# Altium integrated library Silicon Labs Audio.IntLib: 141 symbols (part 4 of 7)
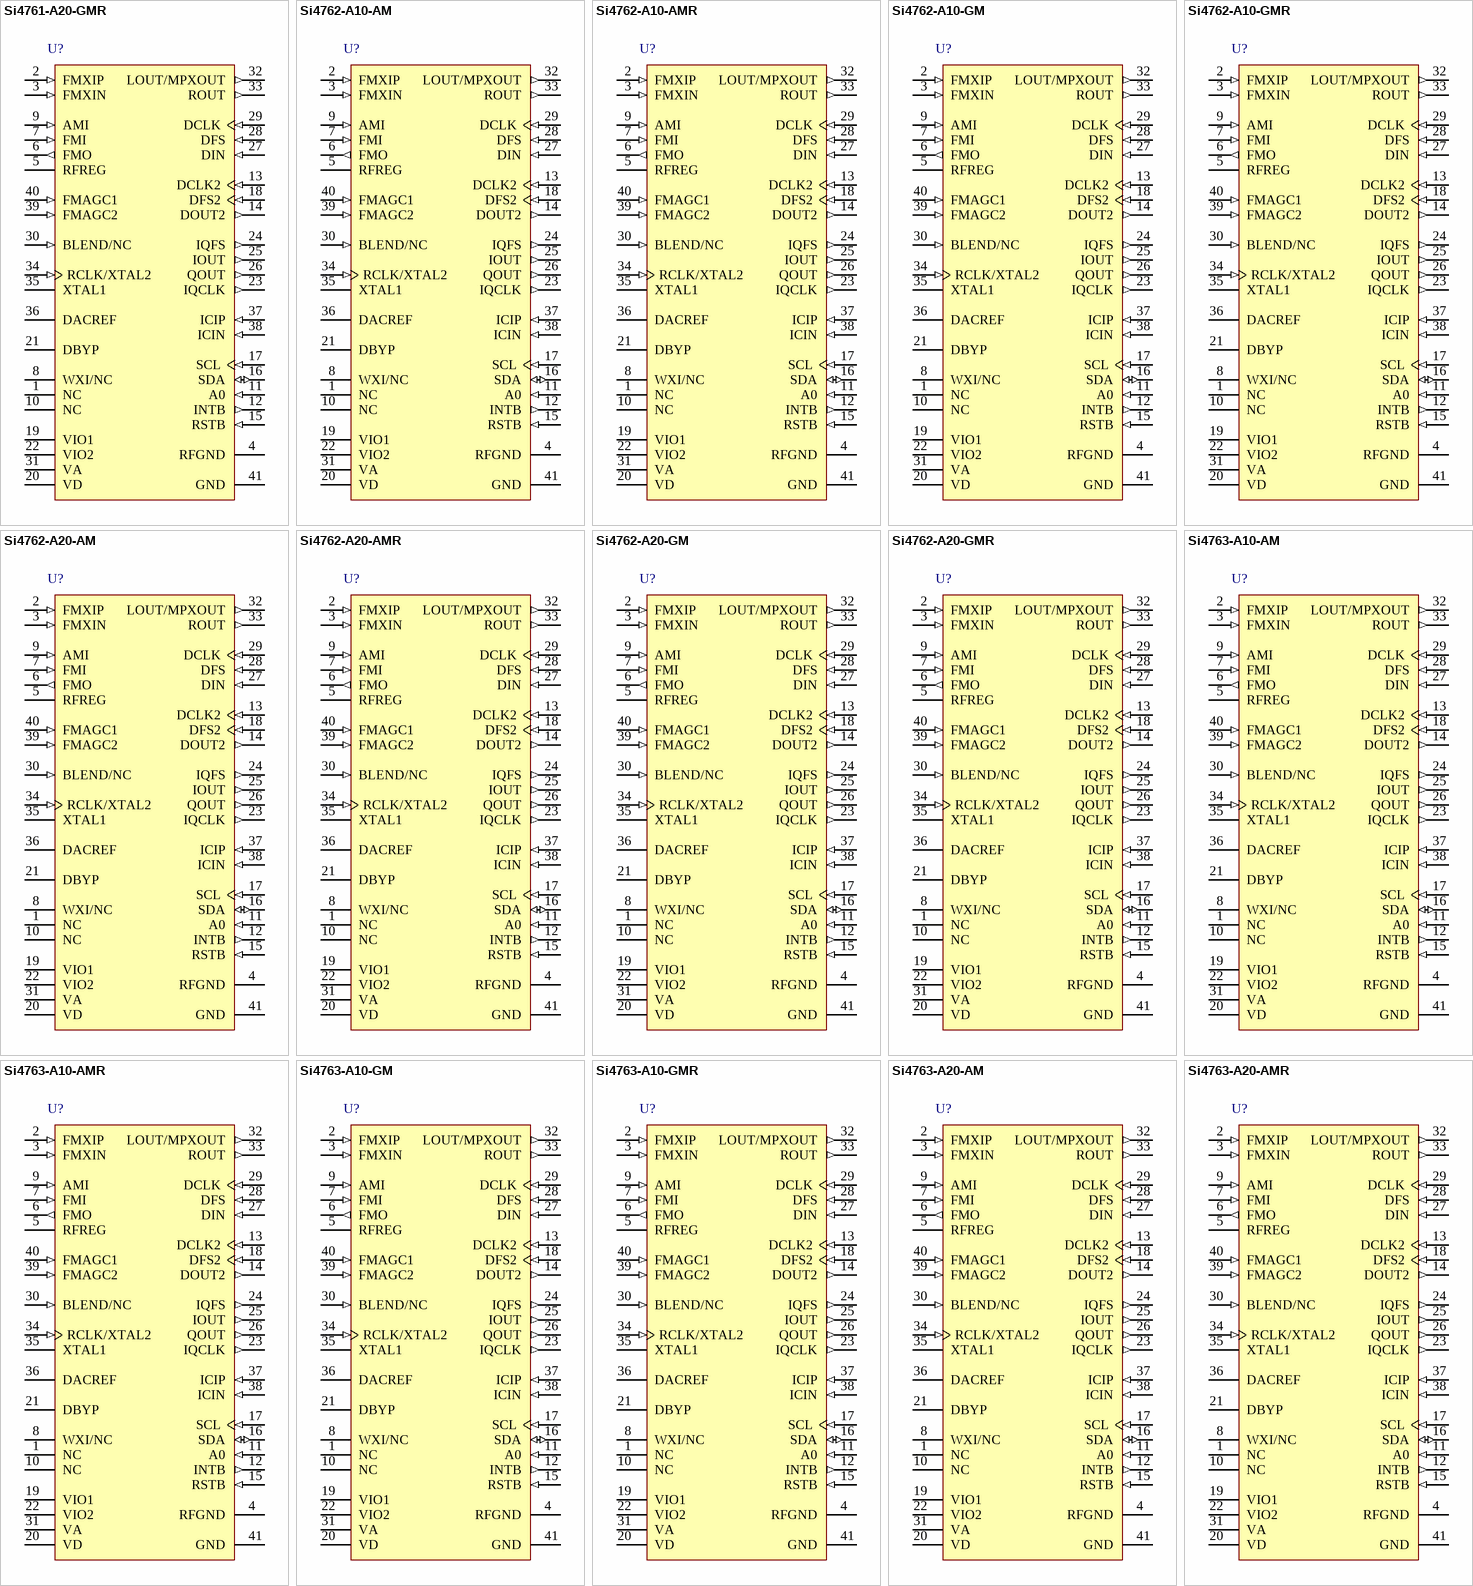
[diagram p10: symbols Si4761-A20-GMR to Si4763-A20-AMR]

## Si4762-A20-GMR
designator U?
High-Performance Automotive AM / FM Radio Receiver and HD Radio Tuner, -40 to 85 degC, 40-pin QFN, Tape and Reel; Manufacturer: Silicon Labs; PartNumber: Si4762-A20-GMR; RDS Support: TRUE; Sub-Family: Automotive Tuners; PackageVersion: Rev. 1.3, 01/2012; PackageReference: QFN-40; PackageDescription: 40-Pin Quad-Flat No-Leads Package, Body 6 x 6 mm, Pitch 0.5 mm; Supplier 1: Digi-Key; Supplier Part Number 1: SI4762-A20-GMR-ND; Packing: Tape and Reel; Mounting Technology: Surface Mount; Code_JEDEC: MO-220; Code_IPC: J-STD-020; ComponentLink1Description: Manufacturer URL; ComponentLink1URL: http://www.silabs.com/; ComponentLink2Description: Datasheet; ComponentLink2URL: http://www.silabs.com/Support Documents/TechnicalDocs/Si476x-short.pdf; ComponentLink3Description: Package Specification; ComponentLink3URL: http://www.silabs.com/Support%20Documents/TechnicalDocs/Si3452.pdf
footprint SLAB-QFN-40-4100x4100TP_A_N (QFN, 40-Leads, Body 6x6mm, Pitch 0.5mm, Thermal Pad 4.1X4.1mm, IPC Medium Density)
footprint SLAB-QFN-40-4100x4100TP_A_L (QFN, 40-Leads, Body 6x6mm, Pitch 0.5mm, Thermal Pad 4.1X4.1mm, IPC High Density)
footprint SLAB-QFN-40-4100x4100TP_A_M (QFN, 40-Leads, Body 6x6mm, Pitch 0.5mm, Thermal Pad 4.1X4.1mm, IPC Low Density)
pins: 1 NC, 2 FMXIP (in), 3 FMXIN (in), 4 RFGND (power), 5 RFREG (power), 6 FMO (out), 7 FMI (in), 8 WXI/NC, 9 AMI (in), 10 NC, 11 A0 (in), 12 INTB (out), 13 DCLK2 (in), 14 DOUT2 (out), 15 RSTB (in), 16 SDA (io), 17 SCL (in), 18 DFS2 (in), 19 VIO1 (power), 20 VD (power), 21 DBYP, 22 VIO2 (power), 23 IQCLK (out), 24 IQFS (out), 25 IOUT (out), 26 QOUT (out), 27 DIN (in), 28 DFS (in), 29 DCLK (in), 30 BLEND/NC (in), 31 VA (power), 32 LOUT/MPXOUT (out), 33 ROUT (out), 34 RCLK/XTAL2 (in), 35 XTAL1, 36 DACREF, 37 ICIP (in), 38 ICIN (in), 39 FMAGC2 (in), 40 FMAGC1 (in), 41 GND (power)

## Si4763-A10-AM
designator U?
High-Performance Automotive AM / FM Radio Receiver and HD Radio Tuner, -40 to 85 degC, 40-pin QFN, Tray; Manufacturer: Silicon Labs; PartNumber: Si4763-A10-AM; RDS Support: TRUE; Sub-Family: Automotive Tuners; PackageVersion: Rev. 1.3, 01/2012; PackageReference: QFN-40; PackageDescription: 40-Pin Quad-Flat No-Leads Package, Body 6 x 6 mm, Pitch 0.5 mm; Supplier 1: Digi-Key; Supplier Part Number 1: SI4763-A10-AM-ND; Supplier 2: Mouser; Supplier Part Number 2: N/A; Packing: Tray; Mounting Technology: Surface Mount; Code_JEDEC: MO-220; Code_IPC: J-STD-020; ComponentLink1Description: Manufacturer URL; ComponentLink1URL: http://www.silabs.com/; ComponentLink2Description: Datasheet; ComponentLink2URL: http://www.silabs.com/Support Documents/TechnicalDocs/Si476x-short.pdf; ComponentLink3Description: Package Specification; ComponentLink3URL: http://www.silabs.com/Support%20Documents/TechnicalDocs/Si3452.pdf
footprint SLAB-QFN-40-4100x4100TP_A_N (QFN, 40-Leads, Body 6x6mm, Pitch 0.5mm, Thermal Pad 4.1X4.1mm, IPC Medium Density)
footprint SLAB-QFN-40-4100x4100TP_A_L (QFN, 40-Leads, Body 6x6mm, Pitch 0.5mm, Thermal Pad 4.1X4.1mm, IPC High Density)
footprint SLAB-QFN-40-4100x4100TP_A_M (QFN, 40-Leads, Body 6x6mm, Pitch 0.5mm, Thermal Pad 4.1X4.1mm, IPC Low Density)
pins: 1 NC, 2 FMXIP (in), 3 FMXIN (in), 4 RFGND (power), 5 RFREG (power), 6 FMO (out), 7 FMI (in), 8 WXI/NC, 9 AMI (in), 10 NC, 11 A0 (in), 12 INTB (out), 13 DCLK2 (in), 14 DOUT2 (out), 15 RSTB (in), 16 SDA (io), 17 SCL (in), 18 DFS2 (in), 19 VIO1 (power), 20 VD (power), 21 DBYP, 22 VIO2 (power), 23 IQCLK (out), 24 IQFS (out), 25 IOUT (out), 26 QOUT (out), 27 DIN (in), 28 DFS (in), 29 DCLK (in), 30 BLEND/NC (in), 31 VA (power), 32 LOUT/MPXOUT (out), 33 ROUT (out), 34 RCLK/XTAL2 (in), 35 XTAL1, 36 DACREF, 37 ICIP (in), 38 ICIN (in), 39 FMAGC2 (in), 40 FMAGC1 (in), 41 GND (power)

## Si4763-A10-AMR
designator U?
High-Performance Automotive AM / FM Radio Receiver and HD Radio Tuner, -40 to 85 degC, 40-pin QFN, Tape and Reel; Manufacturer: Silicon Labs; PartNumber: Si4763-A10-AMR; RDS Support: TRUE; Sub-Family: Automotive Tuners; PackageVersion: Rev. 1.3, 01/2012; PackageReference: QFN-40; PackageDescription: 40-Pin Quad-Flat No-Leads Package, Body 6 x 6 mm, Pitch 0.5 mm; Supplier 1: Digi-Key; Supplier Part Number 1: SI4763-A10-AMR-ND; Supplier 2: Mouser; Supplier Part Number 2: N/A; Packing: Tape and Reel; Mounting Technology: Surface Mount; Code_JEDEC: MO-220; Code_IPC: J-STD-020; ComponentLink1Description: Manufacturer URL; ComponentLink1URL: http://www.silabs.com/; ComponentLink2Description: Datasheet; ComponentLink2URL: http://www.silabs.com/Support Documents/TechnicalDocs/Si476x-short.pdf; ComponentLink3Description: Package Specification; ComponentLink3URL: http://www.silabs.com/Support%20Documents/TechnicalDocs/Si3452.pdf
footprint SLAB-QFN-40-4100x4100TP_A_N (QFN, 40-Leads, Body 6x6mm, Pitch 0.5mm, Thermal Pad 4.1X4.1mm, IPC Medium Density)
footprint SLAB-QFN-40-4100x4100TP_A_L (QFN, 40-Leads, Body 6x6mm, Pitch 0.5mm, Thermal Pad 4.1X4.1mm, IPC High Density)
footprint SLAB-QFN-40-4100x4100TP_A_M (QFN, 40-Leads, Body 6x6mm, Pitch 0.5mm, Thermal Pad 4.1X4.1mm, IPC Low Density)
pins: 1 NC, 2 FMXIP (in), 3 FMXIN (in), 4 RFGND (power), 5 RFREG (power), 6 FMO (out), 7 FMI (in), 8 WXI/NC, 9 AMI (in), 10 NC, 11 A0 (in), 12 INTB (out), 13 DCLK2 (in), 14 DOUT2 (out), 15 RSTB (in), 16 SDA (io), 17 SCL (in), 18 DFS2 (in), 19 VIO1 (power), 20 VD (power), 21 DBYP, 22 VIO2 (power), 23 IQCLK (out), 24 IQFS (out), 25 IOUT (out), 26 QOUT (out), 27 DIN (in), 28 DFS (in), 29 DCLK (in), 30 BLEND/NC (in), 31 VA (power), 32 LOUT/MPXOUT (out), 33 ROUT (out), 34 RCLK/XTAL2 (in), 35 XTAL1, 36 DACREF, 37 ICIP (in), 38 ICIN (in), 39 FMAGC2 (in), 40 FMAGC1 (in), 41 GND (power)

## Si4763-A10-GM
designator U?
High-Performance Automotive AM / FM Radio Receiver and HD Radio Tuner, -40 to 85 degC, 40-pin QFN, Tray; Manufacturer: Silicon Labs; PartNumber: Si4763-A10-GM; RDS Support: TRUE; Sub-Family: Automotive Tuners; PackageVersion: Rev. 1.3, 01/2012; PackageReference: QFN-40; PackageDescription: 40-Pin Quad-Flat No-Leads Package, Body 6 x 6 mm, Pitch 0.5 mm; Supplier 1: Digi-Key; Supplier Part Number 1: SI4763-A10-GM-ND; Supplier 2: Mouser; Supplier Part Number 2: N/A; Packing: Tray; Mounting Technology: Surface Mount; Code_JEDEC: MO-220; Code_IPC: J-STD-020; ComponentLink1Description: Manufacturer URL; ComponentLink1URL: http://www.silabs.com/; ComponentLink2Description: Datasheet; ComponentLink2URL: http://www.silabs.com/Support Documents/TechnicalDocs/Si476x-short.pdf; ComponentLink3Description: Package Specification; ComponentLink3URL: http://www.silabs.com/Support%20Documents/TechnicalDocs/Si3452.pdf
footprint SLAB-QFN-40-4100x4100TP_A_N (QFN, 40-Leads, Body 6x6mm, Pitch 0.5mm, Thermal Pad 4.1X4.1mm, IPC Medium Density)
footprint SLAB-QFN-40-4100x4100TP_A_L (QFN, 40-Leads, Body 6x6mm, Pitch 0.5mm, Thermal Pad 4.1X4.1mm, IPC High Density)
footprint SLAB-QFN-40-4100x4100TP_A_M (QFN, 40-Leads, Body 6x6mm, Pitch 0.5mm, Thermal Pad 4.1X4.1mm, IPC Low Density)
pins: 1 NC, 2 FMXIP (in), 3 FMXIN (in), 4 RFGND (power), 5 RFREG (power), 6 FMO (out), 7 FMI (in), 8 WXI/NC, 9 AMI (in), 10 NC, 11 A0 (in), 12 INTB (out), 13 DCLK2 (in), 14 DOUT2 (out), 15 RSTB (in), 16 SDA (io), 17 SCL (in), 18 DFS2 (in), 19 VIO1 (power), 20 VD (power), 21 DBYP, 22 VIO2 (power), 23 IQCLK (out), 24 IQFS (out), 25 IOUT (out), 26 QOUT (out), 27 DIN (in), 28 DFS (in), 29 DCLK (in), 30 BLEND/NC (in), 31 VA (power), 32 LOUT/MPXOUT (out), 33 ROUT (out), 34 RCLK/XTAL2 (in), 35 XTAL1, 36 DACREF, 37 ICIP (in), 38 ICIN (in), 39 FMAGC2 (in), 40 FMAGC1 (in), 41 GND (power)

## Si4763-A10-GMR
designator U?
High-Performance Automotive AM / FM Radio Receiver and HD Radio Tuner, -40 to 85 degC, 40-pin QFN, Tape and Reel; Manufacturer: Silicon Labs; PartNumber: Si4763-A10-GMR; RDS Support: TRUE; Sub-Family: Automotive Tuners; PackageVersion: Rev. 1.3, 01/2012; PackageReference: QFN-40; PackageDescription: 40-Pin Quad-Flat No-Leads Package, Body 6 x 6 mm, Pitch 0.5 mm; Supplier 1: Digi-Key; Supplier Part Number 1: SI4763-A10-GMR-ND; Supplier 2: Mouser; Supplier Part Number 2: N/A; Packing: Tape and Reel; Mounting Technology: Surface Mount; Code_JEDEC: MO-220; Code_IPC: J-STD-020; ComponentLink1Description: Manufacturer URL; ComponentLink1URL: http://www.silabs.com/; ComponentLink2Description: Datasheet; ComponentLink2URL: http://www.silabs.com/Support Documents/TechnicalDocs/Si476x-short.pdf; ComponentLink3Description: Package Specification; ComponentLink3URL: http://www.silabs.com/Support%20Documents/TechnicalDocs/Si3452.pdf
footprint SLAB-QFN-40-4100x4100TP_A_N (QFN, 40-Leads, Body 6x6mm, Pitch 0.5mm, Thermal Pad 4.1X4.1mm, IPC Medium Density)
footprint SLAB-QFN-40-4100x4100TP_A_L (QFN, 40-Leads, Body 6x6mm, Pitch 0.5mm, Thermal Pad 4.1X4.1mm, IPC High Density)
footprint SLAB-QFN-40-4100x4100TP_A_M (QFN, 40-Leads, Body 6x6mm, Pitch 0.5mm, Thermal Pad 4.1X4.1mm, IPC Low Density)
pins: 1 NC, 2 FMXIP (in), 3 FMXIN (in), 4 RFGND (power), 5 RFREG (power), 6 FMO (out), 7 FMI (in), 8 WXI/NC, 9 AMI (in), 10 NC, 11 A0 (in), 12 INTB (out), 13 DCLK2 (in), 14 DOUT2 (out), 15 RSTB (in), 16 SDA (io), 17 SCL (in), 18 DFS2 (in), 19 VIO1 (power), 20 VD (power), 21 DBYP, 22 VIO2 (power), 23 IQCLK (out), 24 IQFS (out), 25 IOUT (out), 26 QOUT (out), 27 DIN (in), 28 DFS (in), 29 DCLK (in), 30 BLEND/NC (in), 31 VA (power), 32 LOUT/MPXOUT (out), 33 ROUT (out), 34 RCLK/XTAL2 (in), 35 XTAL1, 36 DACREF, 37 ICIP (in), 38 ICIN (in), 39 FMAGC2 (in), 40 FMAGC1 (in), 41 GND (power)

## Si4763-A20-AM
designator U?
High-Performance Automotive AM / FM Radio Receiver and HD Radio Tuner, -40 to 85 degC, 40-pin QFN, Tray; Manufacturer: Silicon Labs; PartNumber: Si4763-A20-AM; RDS Support: TRUE; Sub-Family: Automotive Tuners; PackageVersion: Rev. 1.3, 01/2012; PackageReference: QFN-40; PackageDescription: 40-Pin Quad-Flat No-Leads Package, Body 6 x 6 mm, Pitch 0.5 mm; Supplier 1: Digi-Key; Supplier Part Number 1: SI4763-A20-AM-ND; Supplier 2: Mouser; Supplier Part Number 2: N/A; Packing: Tray; Mounting Technology: Surface Mount; Code_JEDEC: MO-220; Code_IPC: J-STD-020; ComponentLink1Description: Manufacturer URL; ComponentLink1URL: http://www.silabs.com/; ComponentLink2Description: Datasheet; ComponentLink2URL: http://www.silabs.com/Support Documents/TechnicalDocs/Si476x-short.pdf; ComponentLink3Description: Package Specification; ComponentLink3URL: http://www.silabs.com/Support%20Documents/TechnicalDocs/Si3452.pdf
footprint SLAB-QFN-40-4100x4100TP_A_N (QFN, 40-Leads, Body 6x6mm, Pitch 0.5mm, Thermal Pad 4.1X4.1mm, IPC Medium Density)
footprint SLAB-QFN-40-4100x4100TP_A_L (QFN, 40-Leads, Body 6x6mm, Pitch 0.5mm, Thermal Pad 4.1X4.1mm, IPC High Density)
footprint SLAB-QFN-40-4100x4100TP_A_M (QFN, 40-Leads, Body 6x6mm, Pitch 0.5mm, Thermal Pad 4.1X4.1mm, IPC Low Density)
pins: 1 NC, 2 FMXIP (in), 3 FMXIN (in), 4 RFGND (power), 5 RFREG (power), 6 FMO (out), 7 FMI (in), 8 WXI/NC, 9 AMI (in), 10 NC, 11 A0 (in), 12 INTB (out), 13 DCLK2 (in), 14 DOUT2 (out), 15 RSTB (in), 16 SDA (io), 17 SCL (in), 18 DFS2 (in), 19 VIO1 (power), 20 VD (power), 21 DBYP, 22 VIO2 (power), 23 IQCLK (out), 24 IQFS (out), 25 IOUT (out), 26 QOUT (out), 27 DIN (in), 28 DFS (in), 29 DCLK (in), 30 BLEND/NC (in), 31 VA (power), 32 LOUT/MPXOUT (out), 33 ROUT (out), 34 RCLK/XTAL2 (in), 35 XTAL1, 36 DACREF, 37 ICIP (in), 38 ICIN (in), 39 FMAGC2 (in), 40 FMAGC1 (in), 41 GND (power)

## Si4763-A20-AMR
designator U?
High-Performance Automotive AM / FM Radio Receiver and HD Radio Tuner, -40 to 85 degC, 40-pin QFN, Tape and Reel; Manufacturer: Silicon Labs; PartNumber: Si4763-A20-AMR; RDS Support: TRUE; Sub-Family: Automotive Tuners; PackageVersion: Rev. 1.3, 01/2012; PackageReference: QFN-40; PackageDescription: 40-Pin Quad-Flat No-Leads Package, Body 6 x 6 mm, Pitch 0.5 mm; Supplier 1: Digi-Key; Supplier Part Number 1: SI4763-A20-AMR-ND; Packing: Tape and Reel; Mounting Technology: Surface Mount; Code_JEDEC: MO-220; Code_IPC: J-STD-020; ComponentLink1Description: Manufacturer URL; ComponentLink1URL: http://www.silabs.com/; ComponentLink2Description: Datasheet; ComponentLink2URL: http://www.silabs.com/Support Documents/TechnicalDocs/Si476x-short.pdf; ComponentLink3Description: Package Specification; ComponentLink3URL: http://www.silabs.com/Support%20Documents/TechnicalDocs/Si3452.pdf
footprint SLAB-QFN-40-4100x4100TP_A_N (QFN, 40-Leads, Body 6x6mm, Pitch 0.5mm, Thermal Pad 4.1X4.1mm, IPC Medium Density)
footprint SLAB-QFN-40-4100x4100TP_A_L (QFN, 40-Leads, Body 6x6mm, Pitch 0.5mm, Thermal Pad 4.1X4.1mm, IPC High Density)
footprint SLAB-QFN-40-4100x4100TP_A_M (QFN, 40-Leads, Body 6x6mm, Pitch 0.5mm, Thermal Pad 4.1X4.1mm, IPC Low Density)
pins: 1 NC, 2 FMXIP (in), 3 FMXIN (in), 4 RFGND (power), 5 RFREG (power), 6 FMO (out), 7 FMI (in), 8 WXI/NC, 9 AMI (in), 10 NC, 11 A0 (in), 12 INTB (out), 13 DCLK2 (in), 14 DOUT2 (out), 15 RSTB (in), 16 SDA (io), 17 SCL (in), 18 DFS2 (in), 19 VIO1 (power), 20 VD (power), 21 DBYP, 22 VIO2 (power), 23 IQCLK (out), 24 IQFS (out), 25 IOUT (out), 26 QOUT (out), 27 DIN (in), 28 DFS (in), 29 DCLK (in), 30 BLEND/NC (in), 31 VA (power), 32 LOUT/MPXOUT (out), 33 ROUT (out), 34 RCLK/XTAL2 (in), 35 XTAL1, 36 DACREF, 37 ICIP (in), 38 ICIN (in), 39 FMAGC2 (in), 40 FMAGC1 (in), 41 GND (power)

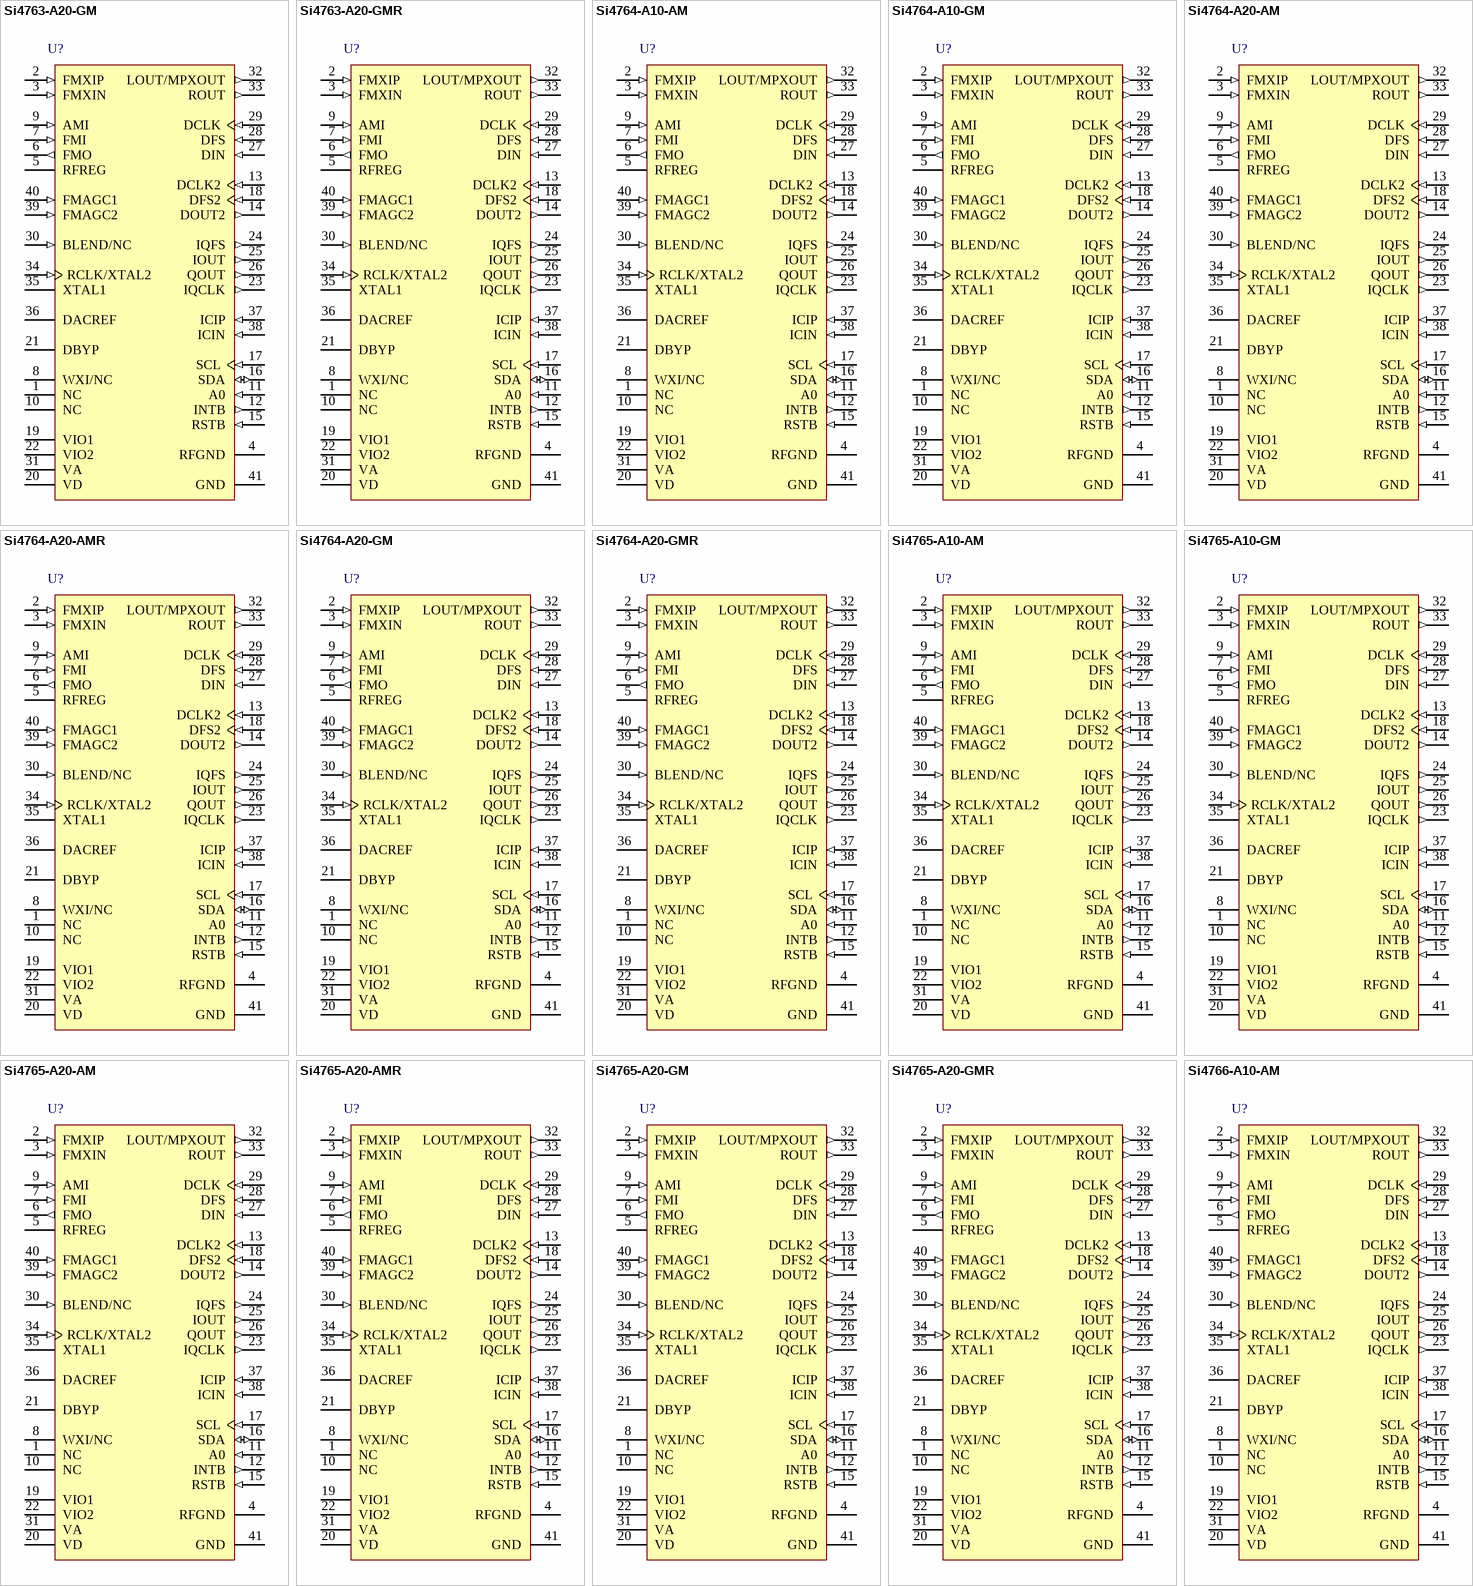
[diagram p4: symbols Si4763-A20-GM to Si4766-A10-AM]

## Si4763-A20-GM
designator U?
High-Performance Automotive AM / FM Radio Receiver and HD Radio Tuner, -40 to 85 degC, 40-pin QFN, Tray; Manufacturer: Silicon Labs; PartNumber: Si4763-A20-GM; RDS Support: TRUE; Sub-Family: Automotive Tuners; PackageVersion: Rev. 1.3, 01/2012; PackageReference: QFN-40; PackageDescription: 40-Pin Quad-Flat No-Leads Package, Body 6 x 6 mm, Pitch 0.5 mm; Supplier 1: Digi-Key; Supplier Part Number 1: SI4763-A20-GM-ND; Supplier 2: Mouser; Supplier Part Number 2: N/A; Packing: Tray; Mounting Technology: Surface Mount; Code_JEDEC: MO-220; Code_IPC: J-STD-020; ComponentLink1Description: Manufacturer URL; ComponentLink1URL: http://www.silabs.com/; ComponentLink2Description: Datasheet; ComponentLink2URL: http://www.silabs.com/Support Documents/TechnicalDocs/Si476x-short.pdf; ComponentLink3Description: Package Specification; ComponentLink3URL: http://www.silabs.com/Support%20Documents/TechnicalDocs/Si3452.pdf
footprint SLAB-QFN-40-4100x4100TP_A_N (QFN, 40-Leads, Body 6x6mm, Pitch 0.5mm, Thermal Pad 4.1X4.1mm, IPC Medium Density)
footprint SLAB-QFN-40-4100x4100TP_A_L (QFN, 40-Leads, Body 6x6mm, Pitch 0.5mm, Thermal Pad 4.1X4.1mm, IPC High Density)
footprint SLAB-QFN-40-4100x4100TP_A_M (QFN, 40-Leads, Body 6x6mm, Pitch 0.5mm, Thermal Pad 4.1X4.1mm, IPC Low Density)
pins: 1 NC, 2 FMXIP (in), 3 FMXIN (in), 4 RFGND (power), 5 RFREG (power), 6 FMO (out), 7 FMI (in), 8 WXI/NC, 9 AMI (in), 10 NC, 11 A0 (in), 12 INTB (out), 13 DCLK2 (in), 14 DOUT2 (out), 15 RSTB (in), 16 SDA (io), 17 SCL (in), 18 DFS2 (in), 19 VIO1 (power), 20 VD (power), 21 DBYP, 22 VIO2 (power), 23 IQCLK (out), 24 IQFS (out), 25 IOUT (out), 26 QOUT (out), 27 DIN (in), 28 DFS (in), 29 DCLK (in), 30 BLEND/NC (in), 31 VA (power), 32 LOUT/MPXOUT (out), 33 ROUT (out), 34 RCLK/XTAL2 (in), 35 XTAL1, 36 DACREF, 37 ICIP (in), 38 ICIN (in), 39 FMAGC2 (in), 40 FMAGC1 (in), 41 GND (power)

## Si4763-A20-GMR
designator U?
High-Performance Automotive AM / FM Radio Receiver and HD Radio Tuner, -40 to 85 degC, 40-pin QFN, Tape and Reel; Manufacturer: Silicon Labs; PartNumber: Si4763-A20-GMR; RDS Support: TRUE; Sub-Family: Automotive Tuners; PackageVersion: Rev. 1.3, 01/2012; PackageReference: QFN-40; PackageDescription: 40-Pin Quad-Flat No-Leads Package, Body 6 x 6 mm, Pitch 0.5 mm; Supplier 1: Digi-Key; Supplier Part Number 1: SI4763-A20-GMR-ND; Packing: Tape and Reel; Mounting Technology: Surface Mount; Code_JEDEC: MO-220; Code_IPC: J-STD-020; ComponentLink1Description: Manufacturer URL; ComponentLink1URL: http://www.silabs.com/; ComponentLink2Description: Datasheet; ComponentLink2URL: http://www.silabs.com/Support Documents/TechnicalDocs/Si476x-short.pdf; ComponentLink3Description: Package Specification; ComponentLink3URL: http://www.silabs.com/Support%20Documents/TechnicalDocs/Si3452.pdf
footprint SLAB-QFN-40-4100x4100TP_A_N (QFN, 40-Leads, Body 6x6mm, Pitch 0.5mm, Thermal Pad 4.1X4.1mm, IPC Medium Density)
footprint SLAB-QFN-40-4100x4100TP_A_L (QFN, 40-Leads, Body 6x6mm, Pitch 0.5mm, Thermal Pad 4.1X4.1mm, IPC High Density)
footprint SLAB-QFN-40-4100x4100TP_A_M (QFN, 40-Leads, Body 6x6mm, Pitch 0.5mm, Thermal Pad 4.1X4.1mm, IPC Low Density)
pins: 1 NC, 2 FMXIP (in), 3 FMXIN (in), 4 RFGND (power), 5 RFREG (power), 6 FMO (out), 7 FMI (in), 8 WXI/NC, 9 AMI (in), 10 NC, 11 A0 (in), 12 INTB (out), 13 DCLK2 (in), 14 DOUT2 (out), 15 RSTB (in), 16 SDA (io), 17 SCL (in), 18 DFS2 (in), 19 VIO1 (power), 20 VD (power), 21 DBYP, 22 VIO2 (power), 23 IQCLK (out), 24 IQFS (out), 25 IOUT (out), 26 QOUT (out), 27 DIN (in), 28 DFS (in), 29 DCLK (in), 30 BLEND/NC (in), 31 VA (power), 32 LOUT/MPXOUT (out), 33 ROUT (out), 34 RCLK/XTAL2 (in), 35 XTAL1, 36 DACREF, 37 ICIP (in), 38 ICIN (in), 39 FMAGC2 (in), 40 FMAGC1 (in), 41 GND (power)

## Si4764-A10-AM
designator U?
High-Performance Automotive AM / FM Radio Receiver and HD Radio Tuner, -40 to 85 degC, 40-pin QFN, Tray; Manufacturer: Silicon Labs; PartNumber: Si4764-A10-AM; RDS Support: TRUE; Sub-Family: Automotive Tuners; PackageVersion: Rev. 1.3, 01/2012; PackageReference: QFN-40; PackageDescription: 40-Pin Quad-Flat No-Leads Package, Body 6 x 6 mm, Pitch 0.5 mm; Supplier 1: Digi-Key; Supplier Part Number 1: SI4764-A10-AM-ND; Supplier 2: Mouser; Supplier Part Number 2: N/A; Packing: Tray; Mounting Technology: Surface Mount; Code_JEDEC: MO-220; Code_IPC: J-STD-020; ComponentLink1Description: Manufacturer URL; ComponentLink1URL: http://www.silabs.com/; ComponentLink2Description: Datasheet; ComponentLink2URL: http://www.silabs.com/Support Documents/TechnicalDocs/Si476x-short.pdf; ComponentLink3Description: Package Specification; ComponentLink3URL: http://www.silabs.com/Support%20Documents/TechnicalDocs/Si3452.pdf
footprint SLAB-QFN-40-4100x4100TP_A_N (QFN, 40-Leads, Body 6x6mm, Pitch 0.5mm, Thermal Pad 4.1X4.1mm, IPC Medium Density)
footprint SLAB-QFN-40-4100x4100TP_A_L (QFN, 40-Leads, Body 6x6mm, Pitch 0.5mm, Thermal Pad 4.1X4.1mm, IPC High Density)
footprint SLAB-QFN-40-4100x4100TP_A_M (QFN, 40-Leads, Body 6x6mm, Pitch 0.5mm, Thermal Pad 4.1X4.1mm, IPC Low Density)
pins: 1 NC, 2 FMXIP (in), 3 FMXIN (in), 4 RFGND (power), 5 RFREG (power), 6 FMO (out), 7 FMI (in), 8 WXI/NC, 9 AMI (in), 10 NC, 11 A0 (in), 12 INTB (out), 13 DCLK2 (in), 14 DOUT2 (out), 15 RSTB (in), 16 SDA (io), 17 SCL (in), 18 DFS2 (in), 19 VIO1 (power), 20 VD (power), 21 DBYP, 22 VIO2 (power), 23 IQCLK (out), 24 IQFS (out), 25 IOUT (out), 26 QOUT (out), 27 DIN (in), 28 DFS (in), 29 DCLK (in), 30 BLEND/NC (in), 31 VA (power), 32 LOUT/MPXOUT (out), 33 ROUT (out), 34 RCLK/XTAL2 (in), 35 XTAL1, 36 DACREF, 37 ICIP (in), 38 ICIN (in), 39 FMAGC2 (in), 40 FMAGC1 (in), 41 GND (power)

## Si4764-A10-GM
designator U?
High-Performance Automotive AM / FM Radio Receiver and HD Radio Tuner, -40 to 85 degC, 40-pin QFN, Tray; Manufacturer: Silicon Labs; PartNumber: Si4764-A10-GM; RDS Support: TRUE; Sub-Family: Automotive Tuners; PackageVersion: Rev. 1.3, 01/2012; PackageReference: QFN-40; PackageDescription: 40-Pin Quad-Flat No-Leads Package, Body 6 x 6 mm, Pitch 0.5 mm; Supplier 1: Digi-Key; Supplier Part Number 1: SI4764-A10-GM-ND; Supplier 2: Mouser; Supplier Part Number 2: N/A; Packing: Tray; Mounting Technology: Surface Mount; Code_JEDEC: MO-220; Code_IPC: J-STD-020; ComponentLink1Description: Manufacturer URL; ComponentLink1URL: http://www.silabs.com/; ComponentLink2Description: Datasheet; ComponentLink2URL: http://www.silabs.com/Support Documents/TechnicalDocs/Si476x-short.pdf; ComponentLink3Description: Package Specification; ComponentLink3URL: http://www.silabs.com/Support%20Documents/TechnicalDocs/Si3452.pdf
footprint SLAB-QFN-40-4100x4100TP_A_N (QFN, 40-Leads, Body 6x6mm, Pitch 0.5mm, Thermal Pad 4.1X4.1mm, IPC Medium Density)
footprint SLAB-QFN-40-4100x4100TP_A_L (QFN, 40-Leads, Body 6x6mm, Pitch 0.5mm, Thermal Pad 4.1X4.1mm, IPC High Density)
footprint SLAB-QFN-40-4100x4100TP_A_M (QFN, 40-Leads, Body 6x6mm, Pitch 0.5mm, Thermal Pad 4.1X4.1mm, IPC Low Density)
pins: 1 NC, 2 FMXIP (in), 3 FMXIN (in), 4 RFGND (power), 5 RFREG (power), 6 FMO (out), 7 FMI (in), 8 WXI/NC, 9 AMI (in), 10 NC, 11 A0 (in), 12 INTB (out), 13 DCLK2 (in), 14 DOUT2 (out), 15 RSTB (in), 16 SDA (io), 17 SCL (in), 18 DFS2 (in), 19 VIO1 (power), 20 VD (power), 21 DBYP, 22 VIO2 (power), 23 IQCLK (out), 24 IQFS (out), 25 IOUT (out), 26 QOUT (out), 27 DIN (in), 28 DFS (in), 29 DCLK (in), 30 BLEND/NC (in), 31 VA (power), 32 LOUT/MPXOUT (out), 33 ROUT (out), 34 RCLK/XTAL2 (in), 35 XTAL1, 36 DACREF, 37 ICIP (in), 38 ICIN (in), 39 FMAGC2 (in), 40 FMAGC1 (in), 41 GND (power)

## Si4764-A20-AM
designator U?
High-Performance Automotive AM / FM Radio Receiver and HD Radio Tuner, -40 to 85 degC, 40-pin QFN, Tray; Manufacturer: Silicon Labs; PartNumber: Si4764-A20-AM; RDS Support: TRUE; Sub-Family: Automotive Tuners; PackageVersion: Rev. 1.3, 01/2012; PackageReference: QFN-40; PackageDescription: 40-Pin Quad-Flat No-Leads Package, Body 6 x 6 mm, Pitch 0.5 mm; Supplier 1: Digi-Key; Supplier Part Number 1: SI4764-A20-AM-ND; Supplier 2: Mouser; Supplier Part Number 2: N/A; Packing: Tray; Mounting Technology: Surface Mount; Code_JEDEC: MO-220; Code_IPC: J-STD-020; ComponentLink1Description: Manufacturer URL; ComponentLink1URL: http://www.silabs.com/; ComponentLink2Description: Datasheet; ComponentLink2URL: http://www.silabs.com/Support Documents/TechnicalDocs/Si476x-short.pdf; ComponentLink3Description: Package Specification; ComponentLink3URL: http://www.silabs.com/Support%20Documents/TechnicalDocs/Si3452.pdf
footprint SLAB-QFN-40-4100x4100TP_A_N (QFN, 40-Leads, Body 6x6mm, Pitch 0.5mm, Thermal Pad 4.1X4.1mm, IPC Medium Density)
footprint SLAB-QFN-40-4100x4100TP_A_L (QFN, 40-Leads, Body 6x6mm, Pitch 0.5mm, Thermal Pad 4.1X4.1mm, IPC High Density)
footprint SLAB-QFN-40-4100x4100TP_A_M (QFN, 40-Leads, Body 6x6mm, Pitch 0.5mm, Thermal Pad 4.1X4.1mm, IPC Low Density)
pins: 1 NC, 2 FMXIP (in), 3 FMXIN (in), 4 RFGND (power), 5 RFREG (power), 6 FMO (out), 7 FMI (in), 8 WXI/NC, 9 AMI (in), 10 NC, 11 A0 (in), 12 INTB (out), 13 DCLK2 (in), 14 DOUT2 (out), 15 RSTB (in), 16 SDA (io), 17 SCL (in), 18 DFS2 (in), 19 VIO1 (power), 20 VD (power), 21 DBYP, 22 VIO2 (power), 23 IQCLK (out), 24 IQFS (out), 25 IOUT (out), 26 QOUT (out), 27 DIN (in), 28 DFS (in), 29 DCLK (in), 30 BLEND/NC (in), 31 VA (power), 32 LOUT/MPXOUT (out), 33 ROUT (out), 34 RCLK/XTAL2 (in), 35 XTAL1, 36 DACREF, 37 ICIP (in), 38 ICIN (in), 39 FMAGC2 (in), 40 FMAGC1 (in), 41 GND (power)

## Si4764-A20-AMR
designator U?
High-Performance Automotive AM / FM Radio Receiver and HD Radio Tuner, -40 to 85 degC, 40-pin QFN, Tape and Reel; Manufacturer: Silicon Labs; PartNumber: Si4764-A20-AMR; RDS Support: TRUE; Sub-Family: Automotive Tuners; PackageVersion: Rev. 1.3, 01/2012; PackageReference: QFN-40; PackageDescription: 40-Pin Quad-Flat No-Leads Package, Body 6 x 6 mm, Pitch 0.5 mm; Supplier 1: Digi-Key; Supplier Part Number 1: SI4764-A20-AMR-ND; Supplier 2: Mouser; Supplier Part Number 2: N/A; Packing: Tape and Reel; Mounting Technology: Surface Mount; Code_JEDEC: MO-220; Code_IPC: J-STD-020; ComponentLink1Description: Manufacturer URL; ComponentLink1URL: http://www.silabs.com/; ComponentLink2Description: Datasheet; ComponentLink2URL: http://www.silabs.com/Support Documents/TechnicalDocs/Si476x-short.pdf; ComponentLink3Description: Package Specification; ComponentLink3URL: http://www.silabs.com/Support%20Documents/TechnicalDocs/Si3452.pdf
footprint SLAB-QFN-40-4100x4100TP_A_N (QFN, 40-Leads, Body 6x6mm, Pitch 0.5mm, Thermal Pad 4.1X4.1mm, IPC Medium Density)
footprint SLAB-QFN-40-4100x4100TP_A_L (QFN, 40-Leads, Body 6x6mm, Pitch 0.5mm, Thermal Pad 4.1X4.1mm, IPC High Density)
footprint SLAB-QFN-40-4100x4100TP_A_M (QFN, 40-Leads, Body 6x6mm, Pitch 0.5mm, Thermal Pad 4.1X4.1mm, IPC Low Density)
pins: 1 NC, 2 FMXIP (in), 3 FMXIN (in), 4 RFGND (power), 5 RFREG (power), 6 FMO (out), 7 FMI (in), 8 WXI/NC, 9 AMI (in), 10 NC, 11 A0 (in), 12 INTB (out), 13 DCLK2 (in), 14 DOUT2 (out), 15 RSTB (in), 16 SDA (io), 17 SCL (in), 18 DFS2 (in), 19 VIO1 (power), 20 VD (power), 21 DBYP, 22 VIO2 (power), 23 IQCLK (out), 24 IQFS (out), 25 IOUT (out), 26 QOUT (out), 27 DIN (in), 28 DFS (in), 29 DCLK (in), 30 BLEND/NC (in), 31 VA (power), 32 LOUT/MPXOUT (out), 33 ROUT (out), 34 RCLK/XTAL2 (in), 35 XTAL1, 36 DACREF, 37 ICIP (in), 38 ICIN (in), 39 FMAGC2 (in), 40 FMAGC1 (in), 41 GND (power)

## Si4764-A20-GM
designator U?
High-Performance Automotive AM / FM Radio Receiver and HD Radio Tuner, -40 to 85 degC, 40-pin QFN, Tray; Manufacturer: Silicon Labs; PartNumber: Si4764-A20-GM; RDS Support: TRUE; Sub-Family: Automotive Tuners; PackageVersion: Rev. 1.3, 01/2012; PackageReference: QFN-40; PackageDescription: 40-Pin Quad-Flat No-Leads Package, Body 6 x 6 mm, Pitch 0.5 mm; Supplier 1: Digi-Key; Supplier Part Number 1: SI4764-A20-GM-ND; Supplier 2: Mouser; Supplier Part Number 2: N/A; Packing: Tray; Mounting Technology: Surface Mount; Code_JEDEC: MO-220; Code_IPC: J-STD-020; ComponentLink1Description: Manufacturer URL; ComponentLink1URL: http://www.silabs.com/; ComponentLink2Description: Datasheet; ComponentLink2URL: http://www.silabs.com/Support Documents/TechnicalDocs/Si476x-short.pdf; ComponentLink3Description: Package Specification; ComponentLink3URL: http://www.silabs.com/Support%20Documents/TechnicalDocs/Si3452.pdf
footprint SLAB-QFN-40-4100x4100TP_A_N (QFN, 40-Leads, Body 6x6mm, Pitch 0.5mm, Thermal Pad 4.1X4.1mm, IPC Medium Density)
footprint SLAB-QFN-40-4100x4100TP_A_L (QFN, 40-Leads, Body 6x6mm, Pitch 0.5mm, Thermal Pad 4.1X4.1mm, IPC High Density)
footprint SLAB-QFN-40-4100x4100TP_A_M (QFN, 40-Leads, Body 6x6mm, Pitch 0.5mm, Thermal Pad 4.1X4.1mm, IPC Low Density)
pins: 1 NC, 2 FMXIP (in), 3 FMXIN (in), 4 RFGND (power), 5 RFREG (power), 6 FMO (out), 7 FMI (in), 8 WXI/NC, 9 AMI (in), 10 NC, 11 A0 (in), 12 INTB (out), 13 DCLK2 (in), 14 DOUT2 (out), 15 RSTB (in), 16 SDA (io), 17 SCL (in), 18 DFS2 (in), 19 VIO1 (power), 20 VD (power), 21 DBYP, 22 VIO2 (power), 23 IQCLK (out), 24 IQFS (out), 25 IOUT (out), 26 QOUT (out), 27 DIN (in), 28 DFS (in), 29 DCLK (in), 30 BLEND/NC (in), 31 VA (power), 32 LOUT/MPXOUT (out), 33 ROUT (out), 34 RCLK/XTAL2 (in), 35 XTAL1, 36 DACREF, 37 ICIP (in), 38 ICIN (in), 39 FMAGC2 (in), 40 FMAGC1 (in), 41 GND (power)

## Si4764-A20-GMR
designator U?
High-Performance Automotive AM / FM Radio Receiver and HD Radio Tuner, -40 to 85 degC, 40-pin QFN, Tape and Reel; Manufacturer: Silicon Labs; PartNumber: Si4764-A20-GMR; RDS Support: TRUE; Sub-Family: Automotive Tuners; PackageVersion: Rev. 1.3, 01/2012; PackageReference: QFN-40; PackageDescription: 40-Pin Quad-Flat No-Leads Package, Body 6 x 6 mm, Pitch 0.5 mm; Supplier 1: Digi-Key; Supplier Part Number 1: SI4764-A20-GMR-ND; Supplier 2: Mouser; Supplier Part Number 2: N/A; Packing: Tape and Reel; Mounting Technology: Surface Mount; Code_JEDEC: MO-220; Code_IPC: J-STD-020; ComponentLink1Description: Manufacturer URL; ComponentLink1URL: http://www.silabs.com/; ComponentLink2Description: Datasheet; ComponentLink2URL: http://www.silabs.com/Support Documents/TechnicalDocs/Si476x-short.pdf; ComponentLink3Description: Package Specification; ComponentLink3URL: http://www.silabs.com/Support%20Documents/TechnicalDocs/Si3452.pdf
footprint SLAB-QFN-40-4100x4100TP_A_N (QFN, 40-Leads, Body 6x6mm, Pitch 0.5mm, Thermal Pad 4.1X4.1mm, IPC Medium Density)
footprint SLAB-QFN-40-4100x4100TP_A_L (QFN, 40-Leads, Body 6x6mm, Pitch 0.5mm, Thermal Pad 4.1X4.1mm, IPC High Density)
footprint SLAB-QFN-40-4100x4100TP_A_M (QFN, 40-Leads, Body 6x6mm, Pitch 0.5mm, Thermal Pad 4.1X4.1mm, IPC Low Density)
pins: 1 NC, 2 FMXIP (in), 3 FMXIN (in), 4 RFGND (power), 5 RFREG (power), 6 FMO (out), 7 FMI (in), 8 WXI/NC, 9 AMI (in), 10 NC, 11 A0 (in), 12 INTB (out), 13 DCLK2 (in), 14 DOUT2 (out), 15 RSTB (in), 16 SDA (io), 17 SCL (in), 18 DFS2 (in), 19 VIO1 (power), 20 VD (power), 21 DBYP, 22 VIO2 (power), 23 IQCLK (out), 24 IQFS (out), 25 IOUT (out), 26 QOUT (out), 27 DIN (in), 28 DFS (in), 29 DCLK (in), 30 BLEND/NC (in), 31 VA (power), 32 LOUT/MPXOUT (out), 33 ROUT (out), 34 RCLK/XTAL2 (in), 35 XTAL1, 36 DACREF, 37 ICIP (in), 38 ICIN (in), 39 FMAGC2 (in), 40 FMAGC1 (in), 41 GND (power)

## Si4765-A10-AM
designator U?
High-Performance Automotive AM / FM Radio Receiver and HD Radio Tuner, -40 to 85 degC, 40-pin QFN, Tray; Manufacturer: Silicon Labs; PartNumber: Si4765-A10-AM; RDS Support: TRUE; Sub-Family: Automotive Tuners; PackageVersion: Rev. 1.3, 01/2012; PackageReference: QFN-40; PackageDescription: 40-Pin Quad-Flat No-Leads Package, Body 6 x 6 mm, Pitch 0.5 mm; Supplier 1: Digi-Key; Supplier Part Number 1: SI4765-A10-AM-ND; Supplier 2: Mouser; Supplier Part Number 2: N/A; Packing: Tray; Mounting Technology: Surface Mount; Code_JEDEC: MO-220; Code_IPC: J-STD-020; ComponentLink1Description: Manufacturer URL; ComponentLink1URL: http://www.silabs.com/; ComponentLink2Description: Datasheet; ComponentLink2URL: http://www.silabs.com/Support Documents/TechnicalDocs/Si476x-short.pdf; ComponentLink3Description: Package Specification; ComponentLink3URL: http://www.silabs.com/Support%20Documents/TechnicalDocs/Si3452.pdf
footprint SLAB-QFN-40-4100x4100TP_A_N (QFN, 40-Leads, Body 6x6mm, Pitch 0.5mm, Thermal Pad 4.1X4.1mm, IPC Medium Density)
footprint SLAB-QFN-40-4100x4100TP_A_L (QFN, 40-Leads, Body 6x6mm, Pitch 0.5mm, Thermal Pad 4.1X4.1mm, IPC High Density)
footprint SLAB-QFN-40-4100x4100TP_A_M (QFN, 40-Leads, Body 6x6mm, Pitch 0.5mm, Thermal Pad 4.1X4.1mm, IPC Low Density)
pins: 1 NC, 2 FMXIP (in), 3 FMXIN (in), 4 RFGND (power), 5 RFREG (power), 6 FMO (out), 7 FMI (in), 8 WXI/NC, 9 AMI (in), 10 NC, 11 A0 (in), 12 INTB (out), 13 DCLK2 (in), 14 DOUT2 (out), 15 RSTB (in), 16 SDA (io), 17 SCL (in), 18 DFS2 (in), 19 VIO1 (power), 20 VD (power), 21 DBYP, 22 VIO2 (power), 23 IQCLK (out), 24 IQFS (out), 25 IOUT (out), 26 QOUT (out), 27 DIN (in), 28 DFS (in), 29 DCLK (in), 30 BLEND/NC (in), 31 VA (power), 32 LOUT/MPXOUT (out), 33 ROUT (out), 34 RCLK/XTAL2 (in), 35 XTAL1, 36 DACREF, 37 ICIP (in), 38 ICIN (in), 39 FMAGC2 (in), 40 FMAGC1 (in), 41 GND (power)

## Si4765-A10-GM
designator U?
High-Performance Automotive AM / FM Radio Receiver and HD Radio Tuner, -40 to 85 degC, 40-pin QFN, Tray; Manufacturer: Silicon Labs; PartNumber: Si4765-A10-GM; RDS Support: TRUE; Sub-Family: Automotive Tuners; PackageVersion: Rev. 1.3, 01/2012; PackageReference: QFN-40; PackageDescription: 40-Pin Quad-Flat No-Leads Package, Body 6 x 6 mm, Pitch 0.5 mm; Supplier 1: Digi-Key; Supplier Part Number 1: SI4765-A10-GM-ND; Supplier 2: Mouser; Supplier Part Number 2: N/A; Packing: Tray; Mounting Technology: Surface Mount; Code_JEDEC: MO-220; Code_IPC: J-STD-020; ComponentLink1Description: Manufacturer URL; ComponentLink1URL: http://www.silabs.com/; ComponentLink2Description: Datasheet; ComponentLink2URL: http://www.silabs.com/Support Documents/TechnicalDocs/Si476x-short.pdf; ComponentLink3Description: Package Specification; ComponentLink3URL: http://www.silabs.com/Support%20Documents/TechnicalDocs/Si3452.pdf
footprint SLAB-QFN-40-4100x4100TP_A_N (QFN, 40-Leads, Body 6x6mm, Pitch 0.5mm, Thermal Pad 4.1X4.1mm, IPC Medium Density)
footprint SLAB-QFN-40-4100x4100TP_A_L (QFN, 40-Leads, Body 6x6mm, Pitch 0.5mm, Thermal Pad 4.1X4.1mm, IPC High Density)
footprint SLAB-QFN-40-4100x4100TP_A_M (QFN, 40-Leads, Body 6x6mm, Pitch 0.5mm, Thermal Pad 4.1X4.1mm, IPC Low Density)
pins: 1 NC, 2 FMXIP (in), 3 FMXIN (in), 4 RFGND (power), 5 RFREG (power), 6 FMO (out), 7 FMI (in), 8 WXI/NC, 9 AMI (in), 10 NC, 11 A0 (in), 12 INTB (out), 13 DCLK2 (in), 14 DOUT2 (out), 15 RSTB (in), 16 SDA (io), 17 SCL (in), 18 DFS2 (in), 19 VIO1 (power), 20 VD (power), 21 DBYP, 22 VIO2 (power), 23 IQCLK (out), 24 IQFS (out), 25 IOUT (out), 26 QOUT (out), 27 DIN (in), 28 DFS (in), 29 DCLK (in), 30 BLEND/NC (in), 31 VA (power), 32 LOUT/MPXOUT (out), 33 ROUT (out), 34 RCLK/XTAL2 (in), 35 XTAL1, 36 DACREF, 37 ICIP (in), 38 ICIN (in), 39 FMAGC2 (in), 40 FMAGC1 (in), 41 GND (power)

## Si4765-A20-AM
designator U?
High-Performance Automotive AM / FM Radio Receiver and HD Radio Tuner, -40 to 85 degC, 40-pin QFN, Tray; Manufacturer: Silicon Labs; PartNumber: Si4765-A20-AM; RDS Support: TRUE; Sub-Family: Automotive Tuners; PackageVersion: Rev. 1.3, 01/2012; PackageReference: QFN-40; PackageDescription: 40-Pin Quad-Flat No-Leads Package, Body 6 x 6 mm, Pitch 0.5 mm; Supplier 1: Digi-Key; Supplier Part Number 1: SI4765-A20-AM-ND; Supplier 2: Mouser; Supplier Part Number 2: N/A; Packing: Tray; Mounting Technology: Surface Mount; Code_JEDEC: MO-220; Code_IPC: J-STD-020; ComponentLink1Description: Manufacturer URL; ComponentLink1URL: http://www.silabs.com/; ComponentLink2Description: Datasheet; ComponentLink2URL: http://www.silabs.com/Support Documents/TechnicalDocs/Si476x-short.pdf; ComponentLink3Description: Package Specification; ComponentLink3URL: http://www.silabs.com/Support%20Documents/TechnicalDocs/Si3452.pdf
footprint SLAB-QFN-40-4100x4100TP_A_N (QFN, 40-Leads, Body 6x6mm, Pitch 0.5mm, Thermal Pad 4.1X4.1mm, IPC Medium Density)
footprint SLAB-QFN-40-4100x4100TP_A_L (QFN, 40-Leads, Body 6x6mm, Pitch 0.5mm, Thermal Pad 4.1X4.1mm, IPC High Density)
footprint SLAB-QFN-40-4100x4100TP_A_M (QFN, 40-Leads, Body 6x6mm, Pitch 0.5mm, Thermal Pad 4.1X4.1mm, IPC Low Density)
pins: 1 NC, 2 FMXIP (in), 3 FMXIN (in), 4 RFGND (power), 5 RFREG (power), 6 FMO (out), 7 FMI (in), 8 WXI/NC, 9 AMI (in), 10 NC, 11 A0 (in), 12 INTB (out), 13 DCLK2 (in), 14 DOUT2 (out), 15 RSTB (in), 16 SDA (io), 17 SCL (in), 18 DFS2 (in), 19 VIO1 (power), 20 VD (power), 21 DBYP, 22 VIO2 (power), 23 IQCLK (out), 24 IQFS (out), 25 IOUT (out), 26 QOUT (out), 27 DIN (in), 28 DFS (in), 29 DCLK (in), 30 BLEND/NC (in), 31 VA (power), 32 LOUT/MPXOUT (out), 33 ROUT (out), 34 RCLK/XTAL2 (in), 35 XTAL1, 36 DACREF, 37 ICIP (in), 38 ICIN (in), 39 FMAGC2 (in), 40 FMAGC1 (in), 41 GND (power)

## Si4765-A20-AMR
designator U?
High-Performance Automotive AM / FM Radio Receiver and HD Radio Tuner, -40 to 85 degC, 40-pin QFN, Tape and Reel; Manufacturer: Silicon Labs; PartNumber: Si4765-A20-AMR; RDS Support: TRUE; Sub-Family: Automotive Tuners; PackageVersion: Rev. 1.3, 01/2012; PackageReference: QFN-40; PackageDescription: 40-Pin Quad-Flat No-Leads Package, Body 6 x 6 mm, Pitch 0.5 mm; Supplier 1: Digi-Key; Supplier Part Number 1: SI4765-A20-AMR-ND; Supplier 2: Mouser; Supplier Part Number 2: N/A; Packing: Tape and Reel; Mounting Technology: Surface Mount; Code_JEDEC: MO-220; Code_IPC: J-STD-020; ComponentLink1Description: Manufacturer URL; ComponentLink1URL: http://www.silabs.com/; ComponentLink2Description: Datasheet; ComponentLink2URL: http://www.silabs.com/Support Documents/TechnicalDocs/Si476x-short.pdf; ComponentLink3Description: Package Specification; ComponentLink3URL: http://www.silabs.com/Support%20Documents/TechnicalDocs/Si3452.pdf
footprint SLAB-QFN-40-4100x4100TP_A_N (QFN, 40-Leads, Body 6x6mm, Pitch 0.5mm, Thermal Pad 4.1X4.1mm, IPC Medium Density)
footprint SLAB-QFN-40-4100x4100TP_A_L (QFN, 40-Leads, Body 6x6mm, Pitch 0.5mm, Thermal Pad 4.1X4.1mm, IPC High Density)
footprint SLAB-QFN-40-4100x4100TP_A_M (QFN, 40-Leads, Body 6x6mm, Pitch 0.5mm, Thermal Pad 4.1X4.1mm, IPC Low Density)
pins: 1 NC, 2 FMXIP (in), 3 FMXIN (in), 4 RFGND (power), 5 RFREG (power), 6 FMO (out), 7 FMI (in), 8 WXI/NC, 9 AMI (in), 10 NC, 11 A0 (in), 12 INTB (out), 13 DCLK2 (in), 14 DOUT2 (out), 15 RSTB (in), 16 SDA (io), 17 SCL (in), 18 DFS2 (in), 19 VIO1 (power), 20 VD (power), 21 DBYP, 22 VIO2 (power), 23 IQCLK (out), 24 IQFS (out), 25 IOUT (out), 26 QOUT (out), 27 DIN (in), 28 DFS (in), 29 DCLK (in), 30 BLEND/NC (in), 31 VA (power), 32 LOUT/MPXOUT (out), 33 ROUT (out), 34 RCLK/XTAL2 (in), 35 XTAL1, 36 DACREF, 37 ICIP (in), 38 ICIN (in), 39 FMAGC2 (in), 40 FMAGC1 (in), 41 GND (power)

## Si4765-A20-GM
designator U?
High-Performance Automotive AM / FM Radio Receiver and HD Radio Tuner, -40 to 85 degC, 40-pin QFN, Tray; Manufacturer: Silicon Labs; PartNumber: Si4765-A20-GM; RDS Support: TRUE; Sub-Family: Automotive Tuners; PackageVersion: Rev. 1.3, 01/2012; PackageReference: QFN-40; PackageDescription: 40-Pin Quad-Flat No-Leads Package, Body 6 x 6 mm, Pitch 0.5 mm; Supplier 1: Digi-Key; Supplier Part Number 1: SI4765-A20-GM-ND; Supplier 2: Mouser; Supplier Part Number 2: N/A; Packing: Tray; Mounting Technology: Surface Mount; Code_JEDEC: MO-220; Code_IPC: J-STD-020; ComponentLink1Description: Manufacturer URL; ComponentLink1URL: http://www.silabs.com/; ComponentLink2Description: Datasheet; ComponentLink2URL: http://www.silabs.com/Support Documents/TechnicalDocs/Si476x-short.pdf; ComponentLink3Description: Package Specification; ComponentLink3URL: http://www.silabs.com/Support%20Documents/TechnicalDocs/Si3452.pdf
footprint SLAB-QFN-40-4100x4100TP_A_N (QFN, 40-Leads, Body 6x6mm, Pitch 0.5mm, Thermal Pad 4.1X4.1mm, IPC Medium Density)
footprint SLAB-QFN-40-4100x4100TP_A_L (QFN, 40-Leads, Body 6x6mm, Pitch 0.5mm, Thermal Pad 4.1X4.1mm, IPC High Density)
footprint SLAB-QFN-40-4100x4100TP_A_M (QFN, 40-Leads, Body 6x6mm, Pitch 0.5mm, Thermal Pad 4.1X4.1mm, IPC Low Density)
pins: 1 NC, 2 FMXIP (in), 3 FMXIN (in), 4 RFGND (power), 5 RFREG (power), 6 FMO (out), 7 FMI (in), 8 WXI/NC, 9 AMI (in), 10 NC, 11 A0 (in), 12 INTB (out), 13 DCLK2 (in), 14 DOUT2 (out), 15 RSTB (in), 16 SDA (io), 17 SCL (in), 18 DFS2 (in), 19 VIO1 (power), 20 VD (power), 21 DBYP, 22 VIO2 (power), 23 IQCLK (out), 24 IQFS (out), 25 IOUT (out), 26 QOUT (out), 27 DIN (in), 28 DFS (in), 29 DCLK (in), 30 BLEND/NC (in), 31 VA (power), 32 LOUT/MPXOUT (out), 33 ROUT (out), 34 RCLK/XTAL2 (in), 35 XTAL1, 36 DACREF, 37 ICIP (in), 38 ICIN (in), 39 FMAGC2 (in), 40 FMAGC1 (in), 41 GND (power)

## Si4765-A20-GMR
designator U?
High-Performance Automotive AM / FM Radio Receiver and HD Radio Tuner, -40 to 85 degC, 40-pin QFN, Tape and Reel; Manufacturer: Silicon Labs; PartNumber: Si4765-A20-GMR; RDS Support: TRUE; Sub-Family: Automotive Tuners; PackageVersion: Rev. 1.3, 01/2012; PackageReference: QFN-40; PackageDescription: 40-Pin Quad-Flat No-Leads Package, Body 6 x 6 mm, Pitch 0.5 mm; Supplier 1: Digi-Key; Supplier Part Number 1: SI4765-A20-GMR-ND; Supplier 2: Mouser; Supplier Part Number 2: N/A; Packing: Tape and Reel; Mounting Technology: Surface Mount; Code_JEDEC: MO-220; Code_IPC: J-STD-020; ComponentLink1Description: Manufacturer URL; ComponentLink1URL: http://www.silabs.com/; ComponentLink2Description: Datasheet; ComponentLink2URL: http://www.silabs.com/Support Documents/TechnicalDocs/Si476x-short.pdf; ComponentLink3Description: Package Specification; ComponentLink3URL: http://www.silabs.com/Support%20Documents/TechnicalDocs/Si3452.pdf
footprint SLAB-QFN-40-4100x4100TP_A_N (QFN, 40-Leads, Body 6x6mm, Pitch 0.5mm, Thermal Pad 4.1X4.1mm, IPC Medium Density)
footprint SLAB-QFN-40-4100x4100TP_A_L (QFN, 40-Leads, Body 6x6mm, Pitch 0.5mm, Thermal Pad 4.1X4.1mm, IPC High Density)
footprint SLAB-QFN-40-4100x4100TP_A_M (QFN, 40-Leads, Body 6x6mm, Pitch 0.5mm, Thermal Pad 4.1X4.1mm, IPC Low Density)
pins: 1 NC, 2 FMXIP (in), 3 FMXIN (in), 4 RFGND (power), 5 RFREG (power), 6 FMO (out), 7 FMI (in), 8 WXI/NC, 9 AMI (in), 10 NC, 11 A0 (in), 12 INTB (out), 13 DCLK2 (in), 14 DOUT2 (out), 15 RSTB (in), 16 SDA (io), 17 SCL (in), 18 DFS2 (in), 19 VIO1 (power), 20 VD (power), 21 DBYP, 22 VIO2 (power), 23 IQCLK (out), 24 IQFS (out), 25 IOUT (out), 26 QOUT (out), 27 DIN (in), 28 DFS (in), 29 DCLK (in), 30 BLEND/NC (in), 31 VA (power), 32 LOUT/MPXOUT (out), 33 ROUT (out), 34 RCLK/XTAL2 (in), 35 XTAL1, 36 DACREF, 37 ICIP (in), 38 ICIN (in), 39 FMAGC2 (in), 40 FMAGC1 (in), 41 GND (power)

## Si4766-A10-AM
designator U?
High-Performance Automotive AM / FM Radio Receiver and HD Radio Tuner, -40 to 85 degC, 40-pin QFN, Tray; Manufacturer: Silicon Labs; PartNumber: Si4766-A10-AM; RDS Support: TRUE; Sub-Family: Automotive Tuners; PackageVersion: Rev. 1.3, 01/2012; PackageReference: QFN-40; PackageDescription: 40-Pin Quad-Flat No-Leads Package, Body 6 x 6 mm, Pitch 0.5 mm; Supplier 1: Digi-Key; Supplier Part Number 1: SI4766-A10-AM-ND; Supplier 2: Mouser; Supplier Part Number 2: N/A; Packing: Tray; Mounting Technology: Surface Mount; Code_JEDEC: MO-220; Code_IPC: J-STD-020; ComponentLink1Description: Manufacturer URL; ComponentLink1URL: http://www.silabs.com/; ComponentLink2Description: Datasheet; ComponentLink2URL: http://www.silabs.com/Support Documents/TechnicalDocs/Si476x-short.pdf; ComponentLink3Description: Package Specification; ComponentLink3URL: http://www.silabs.com/Support%20Documents/TechnicalDocs/Si3452.pdf
footprint SLAB-QFN-40-4100x4100TP_A_N (QFN, 40-Leads, Body 6x6mm, Pitch 0.5mm, Thermal Pad 4.1X4.1mm, IPC Medium Density)
footprint SLAB-QFN-40-4100x4100TP_A_L (QFN, 40-Leads, Body 6x6mm, Pitch 0.5mm, Thermal Pad 4.1X4.1mm, IPC High Density)
footprint SLAB-QFN-40-4100x4100TP_A_M (QFN, 40-Leads, Body 6x6mm, Pitch 0.5mm, Thermal Pad 4.1X4.1mm, IPC Low Density)
pins: 1 NC, 2 FMXIP (in), 3 FMXIN (in), 4 RFGND (power), 5 RFREG (power), 6 FMO (out), 7 FMI (in), 8 WXI/NC, 9 AMI (in), 10 NC, 11 A0 (in), 12 INTB (out), 13 DCLK2 (in), 14 DOUT2 (out), 15 RSTB (in), 16 SDA (io), 17 SCL (in), 18 DFS2 (in), 19 VIO1 (power), 20 VD (power), 21 DBYP, 22 VIO2 (power), 23 IQCLK (out), 24 IQFS (out), 25 IOUT (out), 26 QOUT (out), 27 DIN (in), 28 DFS (in), 29 DCLK (in), 30 BLEND/NC (in), 31 VA (power), 32 LOUT/MPXOUT (out), 33 ROUT (out), 34 RCLK/XTAL2 (in), 35 XTAL1, 36 DACREF, 37 ICIP (in), 38 ICIN (in), 39 FMAGC2 (in), 40 FMAGC1 (in), 41 GND (power)

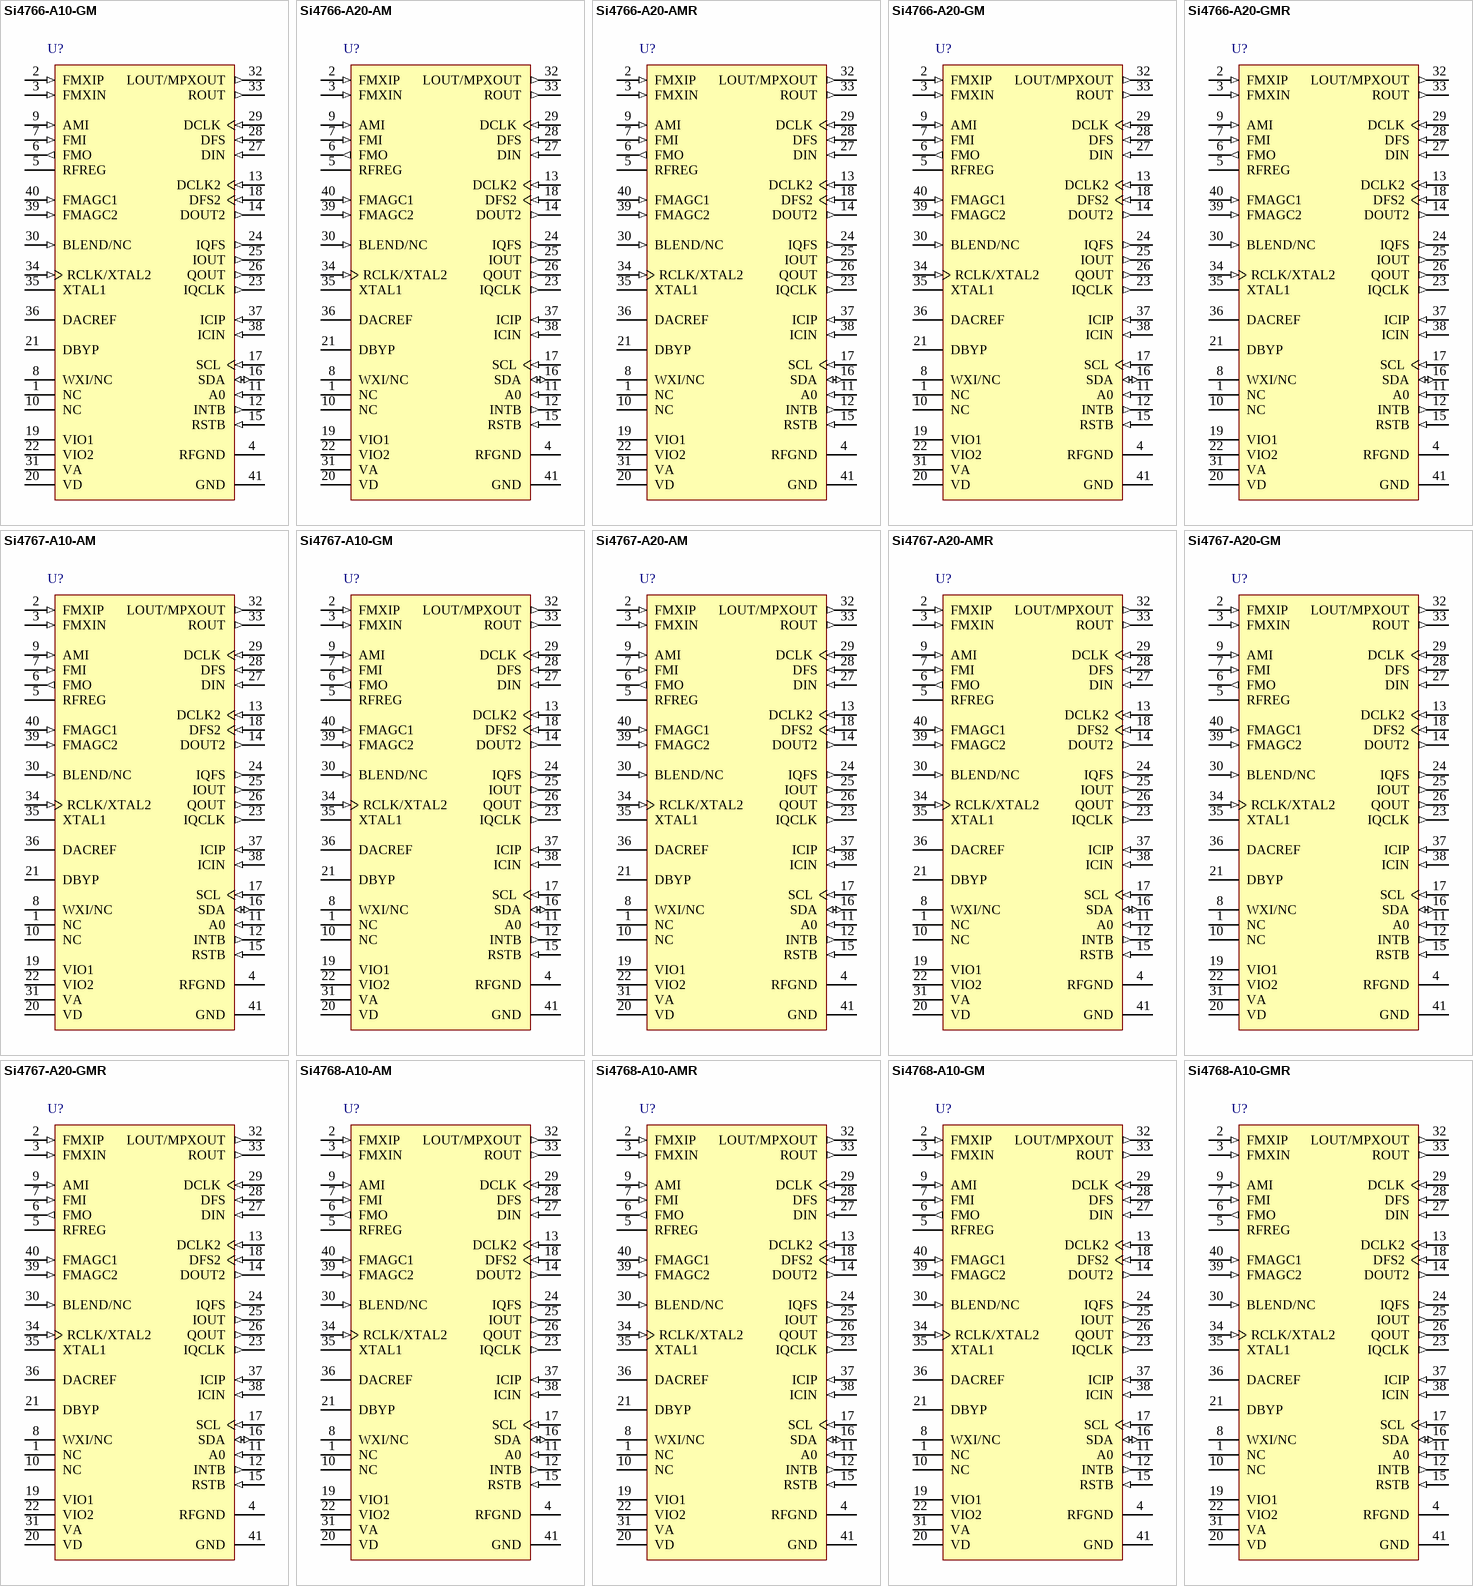
[diagram p5: symbols Si4766-A10-GM to Si4768-A10-GMR]

## Si4766-A10-GM
designator U?
High-Performance Automotive AM / FM Radio Receiver and HD Radio Tuner, -40 to 85 degC, 40-pin QFN, Tray; Manufacturer: Silicon Labs; PartNumber: Si4766-A10-GM; RDS Support: TRUE; Sub-Family: Automotive Tuners; PackageVersion: Rev. 1.3, 01/2012; PackageReference: QFN-40; PackageDescription: 40-Pin Quad-Flat No-Leads Package, Body 6 x 6 mm, Pitch 0.5 mm; Supplier 1: Digi-Key; Supplier Part Number 1: SI4766-A10-GM-ND; Supplier 2: Mouser; Supplier Part Number 2: N/A; Packing: Tray; Mounting Technology: Surface Mount; Code_JEDEC: MO-220; Code_IPC: J-STD-020; ComponentLink1Description: Manufacturer URL; ComponentLink1URL: http://www.silabs.com/; ComponentLink2Description: Datasheet; ComponentLink2URL: http://www.silabs.com/Support Documents/TechnicalDocs/Si476x-short.pdf; ComponentLink3Description: Package Specification; ComponentLink3URL: http://www.silabs.com/Support%20Documents/TechnicalDocs/Si3452.pdf
footprint SLAB-QFN-40-4100x4100TP_A_N (QFN, 40-Leads, Body 6x6mm, Pitch 0.5mm, Thermal Pad 4.1X4.1mm, IPC Medium Density)
footprint SLAB-QFN-40-4100x4100TP_A_L (QFN, 40-Leads, Body 6x6mm, Pitch 0.5mm, Thermal Pad 4.1X4.1mm, IPC High Density)
footprint SLAB-QFN-40-4100x4100TP_A_M (QFN, 40-Leads, Body 6x6mm, Pitch 0.5mm, Thermal Pad 4.1X4.1mm, IPC Low Density)
pins: 1 NC, 2 FMXIP (in), 3 FMXIN (in), 4 RFGND (power), 5 RFREG (power), 6 FMO (out), 7 FMI (in), 8 WXI/NC, 9 AMI (in), 10 NC, 11 A0 (in), 12 INTB (out), 13 DCLK2 (in), 14 DOUT2 (out), 15 RSTB (in), 16 SDA (io), 17 SCL (in), 18 DFS2 (in), 19 VIO1 (power), 20 VD (power), 21 DBYP, 22 VIO2 (power), 23 IQCLK (out), 24 IQFS (out), 25 IOUT (out), 26 QOUT (out), 27 DIN (in), 28 DFS (in), 29 DCLK (in), 30 BLEND/NC (in), 31 VA (power), 32 LOUT/MPXOUT (out), 33 ROUT (out), 34 RCLK/XTAL2 (in), 35 XTAL1, 36 DACREF, 37 ICIP (in), 38 ICIN (in), 39 FMAGC2 (in), 40 FMAGC1 (in), 41 GND (power)

## Si4766-A20-AM
designator U?
High-Performance Automotive AM / FM Radio Receiver and HD Radio Tuner, -40 to 85 degC, 40-pin QFN, Tray; Manufacturer: Silicon Labs; PartNumber: Si4766-A20-AM; RDS Support: TRUE; Sub-Family: Automotive Tuners; PackageVersion: Rev. 1.3, 01/2012; PackageReference: QFN-40; PackageDescription: 40-Pin Quad-Flat No-Leads Package, Body 6 x 6 mm, Pitch 0.5 mm; Supplier 1: Digi-Key; Supplier Part Number 1: SI4766-A20-AM-ND; Supplier 2: Mouser; Supplier Part Number 2: N/A; Packing: Tray; Mounting Technology: Surface Mount; Code_JEDEC: MO-220; Code_IPC: J-STD-020; ComponentLink1Description: Manufacturer URL; ComponentLink1URL: http://www.silabs.com/; ComponentLink2Description: Datasheet; ComponentLink2URL: http://www.silabs.com/Support Documents/TechnicalDocs/Si476x-short.pdf; ComponentLink3Description: Package Specification; ComponentLink3URL: http://www.silabs.com/Support%20Documents/TechnicalDocs/Si3452.pdf
footprint SLAB-QFN-40-4100x4100TP_A_N (QFN, 40-Leads, Body 6x6mm, Pitch 0.5mm, Thermal Pad 4.1X4.1mm, IPC Medium Density)
footprint SLAB-QFN-40-4100x4100TP_A_L (QFN, 40-Leads, Body 6x6mm, Pitch 0.5mm, Thermal Pad 4.1X4.1mm, IPC High Density)
footprint SLAB-QFN-40-4100x4100TP_A_M (QFN, 40-Leads, Body 6x6mm, Pitch 0.5mm, Thermal Pad 4.1X4.1mm, IPC Low Density)
pins: 1 NC, 2 FMXIP (in), 3 FMXIN (in), 4 RFGND (power), 5 RFREG (power), 6 FMO (out), 7 FMI (in), 8 WXI/NC, 9 AMI (in), 10 NC, 11 A0 (in), 12 INTB (out), 13 DCLK2 (in), 14 DOUT2 (out), 15 RSTB (in), 16 SDA (io), 17 SCL (in), 18 DFS2 (in), 19 VIO1 (power), 20 VD (power), 21 DBYP, 22 VIO2 (power), 23 IQCLK (out), 24 IQFS (out), 25 IOUT (out), 26 QOUT (out), 27 DIN (in), 28 DFS (in), 29 DCLK (in), 30 BLEND/NC (in), 31 VA (power), 32 LOUT/MPXOUT (out), 33 ROUT (out), 34 RCLK/XTAL2 (in), 35 XTAL1, 36 DACREF, 37 ICIP (in), 38 ICIN (in), 39 FMAGC2 (in), 40 FMAGC1 (in), 41 GND (power)

## Si4766-A20-AMR
designator U?
High-Performance Automotive AM / FM Radio Receiver and HD Radio Tuner, -40 to 85 degC, 40-pin QFN, Tape and Reel; Manufacturer: Silicon Labs; PartNumber: Si4766-A20-AMR; RDS Support: TRUE; Sub-Family: Automotive Tuners; PackageVersion: Rev. 1.3, 01/2012; PackageReference: QFN-40; PackageDescription: 40-Pin Quad-Flat No-Leads Package, Body 6 x 6 mm, Pitch 0.5 mm; Supplier 1: Digi-Key; Supplier Part Number 1: SI4766-A20-AMR-ND; Supplier 2: Mouser; Supplier Part Number 2: N/A; Packing: Tape and Reel; Mounting Technology: Surface Mount; Code_JEDEC: MO-220; Code_IPC: J-STD-020; ComponentLink1Description: Manufacturer URL; ComponentLink1URL: http://www.silabs.com/; ComponentLink2Description: Datasheet; ComponentLink2URL: http://www.silabs.com/Support Documents/TechnicalDocs/Si476x-short.pdf; ComponentLink3Description: Package Specification; ComponentLink3URL: http://www.silabs.com/Support%20Documents/TechnicalDocs/Si3452.pdf
footprint SLAB-QFN-40-4100x4100TP_A_N (QFN, 40-Leads, Body 6x6mm, Pitch 0.5mm, Thermal Pad 4.1X4.1mm, IPC Medium Density)
footprint SLAB-QFN-40-4100x4100TP_A_L (QFN, 40-Leads, Body 6x6mm, Pitch 0.5mm, Thermal Pad 4.1X4.1mm, IPC High Density)
footprint SLAB-QFN-40-4100x4100TP_A_M (QFN, 40-Leads, Body 6x6mm, Pitch 0.5mm, Thermal Pad 4.1X4.1mm, IPC Low Density)
pins: 1 NC, 2 FMXIP (in), 3 FMXIN (in), 4 RFGND (power), 5 RFREG (power), 6 FMO (out), 7 FMI (in), 8 WXI/NC, 9 AMI (in), 10 NC, 11 A0 (in), 12 INTB (out), 13 DCLK2 (in), 14 DOUT2 (out), 15 RSTB (in), 16 SDA (io), 17 SCL (in), 18 DFS2 (in), 19 VIO1 (power), 20 VD (power), 21 DBYP, 22 VIO2 (power), 23 IQCLK (out), 24 IQFS (out), 25 IOUT (out), 26 QOUT (out), 27 DIN (in), 28 DFS (in), 29 DCLK (in), 30 BLEND/NC (in), 31 VA (power), 32 LOUT/MPXOUT (out), 33 ROUT (out), 34 RCLK/XTAL2 (in), 35 XTAL1, 36 DACREF, 37 ICIP (in), 38 ICIN (in), 39 FMAGC2 (in), 40 FMAGC1 (in), 41 GND (power)

## Si4766-A20-GM
designator U?
High-Performance Automotive AM / FM Radio Receiver and HD Radio Tuner, -40 to 85 degC, 40-pin QFN, Tray; Manufacturer: Silicon Labs; PartNumber: Si4766-A20-GM; RDS Support: TRUE; Sub-Family: Automotive Tuners; PackageVersion: Rev. 1.3, 01/2012; PackageReference: QFN-40; PackageDescription: 40-Pin Quad-Flat No-Leads Package, Body 6 x 6 mm, Pitch 0.5 mm; Supplier 1: Digi-Key; Supplier Part Number 1: SI4766-A20-GM-ND; Supplier 2: Mouser; Supplier Part Number 2: N/A; Packing: Tray; Mounting Technology: Surface Mount; Code_JEDEC: MO-220; Code_IPC: J-STD-020; ComponentLink1Description: Manufacturer URL; ComponentLink1URL: http://www.silabs.com/; ComponentLink2Description: Datasheet; ComponentLink2URL: http://www.silabs.com/Support Documents/TechnicalDocs/Si476x-short.pdf; ComponentLink3Description: Package Specification; ComponentLink3URL: http://www.silabs.com/Support%20Documents/TechnicalDocs/Si3452.pdf
footprint SLAB-QFN-40-4100x4100TP_A_N (QFN, 40-Leads, Body 6x6mm, Pitch 0.5mm, Thermal Pad 4.1X4.1mm, IPC Medium Density)
footprint SLAB-QFN-40-4100x4100TP_A_L (QFN, 40-Leads, Body 6x6mm, Pitch 0.5mm, Thermal Pad 4.1X4.1mm, IPC High Density)
footprint SLAB-QFN-40-4100x4100TP_A_M (QFN, 40-Leads, Body 6x6mm, Pitch 0.5mm, Thermal Pad 4.1X4.1mm, IPC Low Density)
pins: 1 NC, 2 FMXIP (in), 3 FMXIN (in), 4 RFGND (power), 5 RFREG (power), 6 FMO (out), 7 FMI (in), 8 WXI/NC, 9 AMI (in), 10 NC, 11 A0 (in), 12 INTB (out), 13 DCLK2 (in), 14 DOUT2 (out), 15 RSTB (in), 16 SDA (io), 17 SCL (in), 18 DFS2 (in), 19 VIO1 (power), 20 VD (power), 21 DBYP, 22 VIO2 (power), 23 IQCLK (out), 24 IQFS (out), 25 IOUT (out), 26 QOUT (out), 27 DIN (in), 28 DFS (in), 29 DCLK (in), 30 BLEND/NC (in), 31 VA (power), 32 LOUT/MPXOUT (out), 33 ROUT (out), 34 RCLK/XTAL2 (in), 35 XTAL1, 36 DACREF, 37 ICIP (in), 38 ICIN (in), 39 FMAGC2 (in), 40 FMAGC1 (in), 41 GND (power)